# Altium schematic symbol library DPIAT_202303_DOOR.SCHLIB: 41 symbols
Pins are listed as number, name and electrical type; pins without a type are passive.

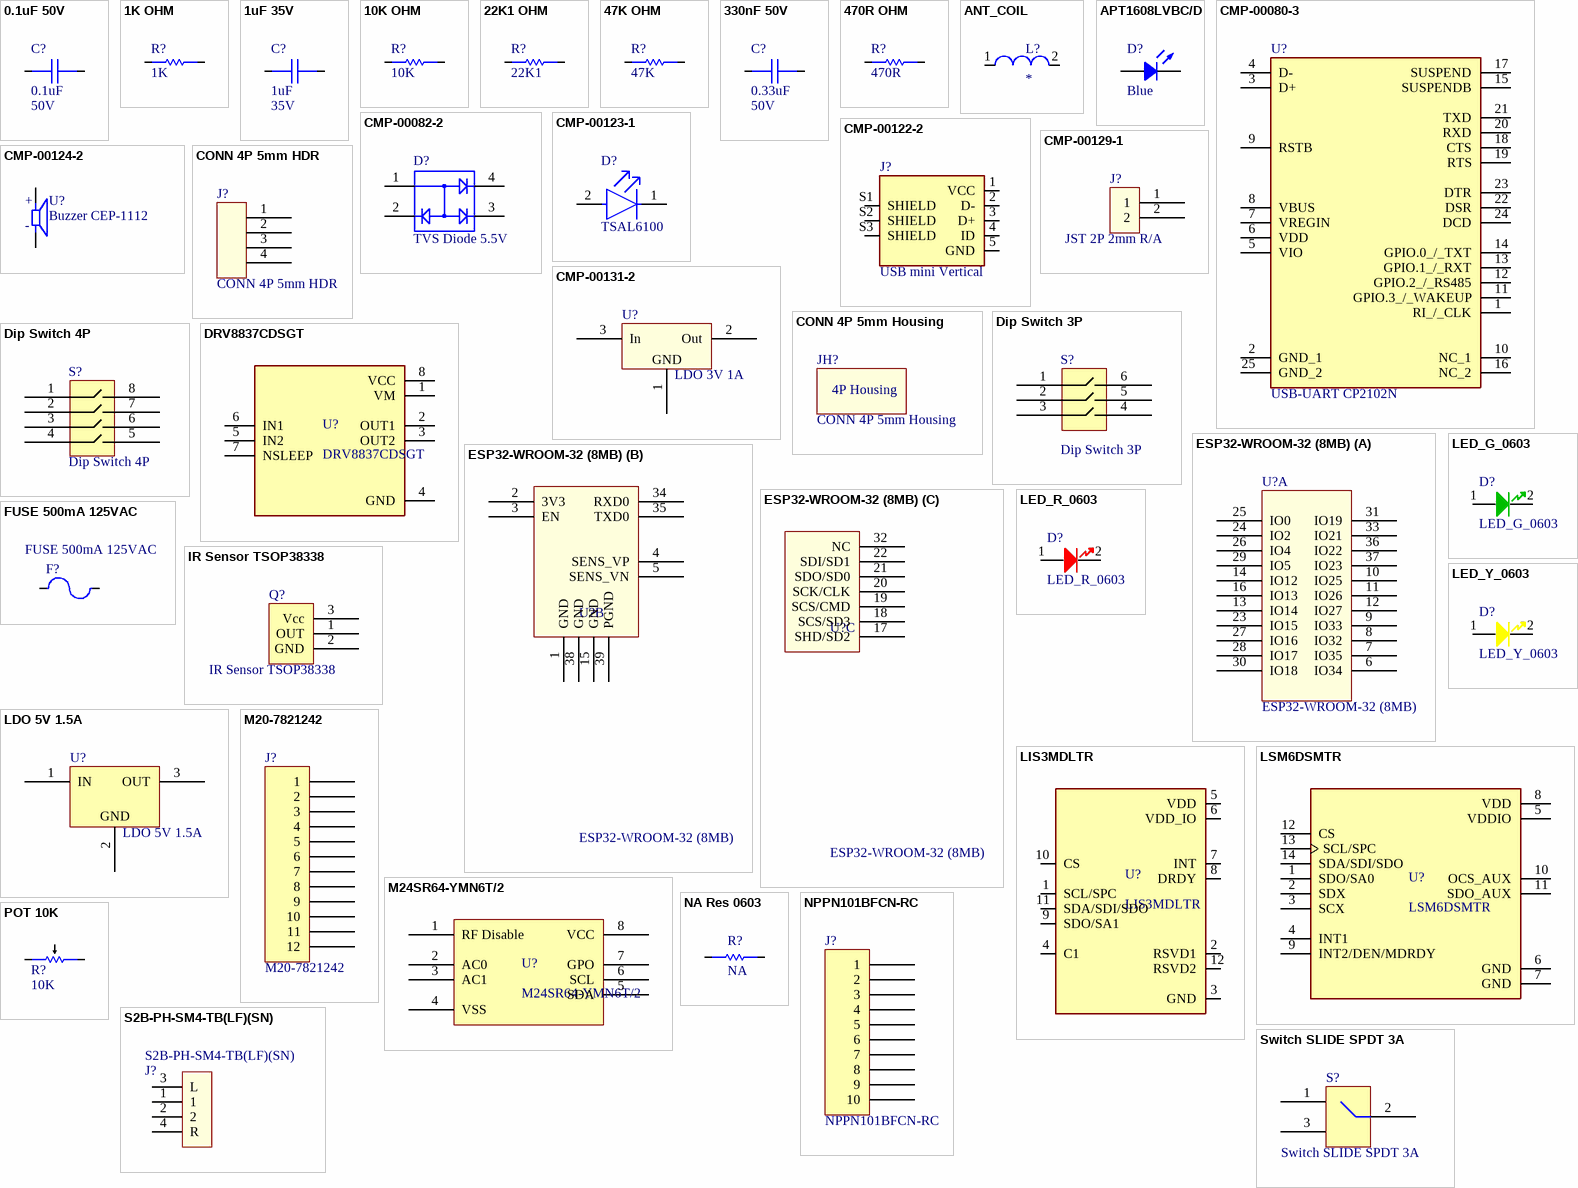
[diagram p0: symbols 0.1uF 50V to Switch SLIDE SPDT 3A]

## 0.1uF 50V
designator C?  value 0.1uF  Volt: 50V  (hidden comment: 0.1uF 50V)
CAP CER 0.1UF 50V X7R 0603; Manufacturer Part Number 1: 06035C104K4T2A; Manufacturer: Kyocera AVX; Manufacturer Part Number: 06035C104K4T2A/4K; Source: IC_Cap.SchLib; Design Item ID: 0.1uF 50V; Component Type: Capacitors
footprint 0603 X7R
pins: 1, 2

## 1K OHM
designator R?, comment value 1K  (hidden comment: 1K 1% 1/10W)
RES SMD 1K OHM 1% 1/10W 0603; Manufacturer Part Number 1: RMCF0603FT1K00; Manufacturer: Stackpole Electronics; Design Item ID: 1K 1% 1/10W; Source: IC_Res.SchLib; Manufacturer Part Number: RMCF0603FT1K00; Component Type: Resistors
footprint 0603_Yageo
pins: 1, 2

## 1uF 35V
designator C?  value 1uF  Volt: 35V  (hidden comment: 1uF 35V)
1µF ±10% 35V Ceramic Capacitor X7R 0603 (1608 Metric); Manufacturer Part Number: GMJ107CB7105MAHR; Manufacturer: Taiyo Yuden; Manufacturer Part Number: GMJ107CB7105KAHR; Verifier: Maxim Ayotte; Tri: 1000000; Design Item ID: 1uF 35V X7R; Source: IC_Cap.SchLib; Component Type: Capacitors
footprint 0603 X7R
pins: 1, 2

## 10K OHM
designator R?, comment value 10K  (hidden comment: 10K 1% 1/10W)
RES SMD 10K OHM 1% 1/10W 0603; Manufacturer Part Number 1: CRG0603F10K/10; Manufacturer: TE Connectivity; Manufacturer Part Number: CRG0603F10K; Design Item ID: 10K 1% 1/10W; Source: IC_Res.SchLib; Component Type: Resistors
footprint 0603_Yageo
pins: 1, 2

## 22K1 OHM
designator R?, comment value 22K1  (hidden comment: 22K1 1% 0603)
Res Thick Film 0603 22.1k Ohm 1% 1/10W ±100ppm/°C Molded SMD Paper T/R; Manufactuer Part Number 1: RMCF0603FT22K1; Manufacturer: Stackpole Electronics; Manufacturer Part Number: RMCF0603FT22K1; Component Type: Resistors
footprint 0603
pins: 1, 2

## 47K OHM
designator R?, comment value 47K  (hidden comment: 47K 1% 0603)
47 kOhms ±1% 0.1W, 1/10W Chip Resistor 0603 (1608 Metric) Automotive AEC-Q200 Thick Film; Manufacturer Part Number 1: RMCF0603FT47K0; Manufacturer: Stackpole Electronics; Manufacturer Part Number: RMCF0603FT47K0; Component Type: Resistors
footprint 0603
pins: 1, 2

## 330nF 50V
designator C?  value 0.33uF  Volt: 50V  (hidden comment: 330nF 50V)
CAP CER 0.33UF 50V X5R 0603; Manufacturer Part Number: CGA3E3X5R1H334K080AB; Manufacturer: TDK; Tri: 330000; Verifier: Maxim Ayotte; Source: IC_Cap.SchLib; Design Item ID: 330nF 50V; Component Type: Capacitors
footprint 0603 X7R
pins: 1, 2

## 470R OHM
designator R?, comment value 470R  (hidden comment: 470R 1% 1/10W)
RES SMD 470 OHM 1% 1/10W 0603; Manufacturer Part Number 1: RC0603FR-07470RL; Manufacturer: Yageo; Source: IC_Res.SchLib; Design Item ID: 470R 1% 1/10W (Plus en stock); Manufacturer Part Number: RC0603FR-07470RL; Component Type: Resistors
footprint 0603_Yageo
pins: 1, 2

## ANT_COIL
designator L?
pins: 1, 2

## APT1608LVBC/D
designator D?, comment Blue
Blue 470nm LED Indication - Discrete 2.65V 0603 (1608 Metric); Manufacturer Part Number 1: APT1608LVBC/D; Manufacturer: Vishay Lite-On; Manufacturer Part Number: APT1608LVBC/D; Component Type: LED; Supplier 1: Digi-Key; Supplier Part Number 1: 754-1933-1-ND
footprint LED 0603_1608 BLUE (Chip Diode, 2-Leads, Body 1.60x0.80mm, IPC Medium Density)
pins: A, C

## CMP-00080-3
designator U?, comment USB-UART CP2102N
USB Interface IC USBXpress - USB to UART Bridge QFN24; Manufacturer Part Number 1: CP2102N-A02-GQFN24; Manufacturer: Silicon Labs; Manufacturer Part Number: CP2102N-A02-GQFN24; Component Type: Interface
footprint CP2102N USB-UART
pins: 1 RI_/_CLK, 2 GND_1, 3 D+, 4 D-, 5 VIO, 6 VDD, 7 VREGIN, 8 VBUS, 9 RSTB, 10 NC_1, 11 GPIO.3_/_WAKEUP, 12 GPIO.2_/_RS485, 13 GPIO.1_/_RXT, 14 GPIO.0_/_TXT, 15 SUSPENDB, 16 NC_2, 17 SUSPEND, 18 CTS, 19 RTS, 20 RXD, 21 TXD, 22 DSR, 23 DTR, 24 DCD, 25 GND_2

## CMP-00082-2
designator D?, comment TVS Diode 5.5V
8.5V Clamp Ipp Tvs Diode Surface Mount SOT-143-4; Manufacturer Part Number 1: SP0503BAHTG; Manufacturer: Littelfuse; Manufacturer Part Number: SP0503BAHTG; Component Type: Diodes
footprint TVS 5.5V Multi Diode
pins: 1, 2, 3, 4

## CMP-00122-2
designator J?, comment USB mini Vertical
USB - mini B Receptacle Connector 5 Position Through Hole; Manufacturer Part Number 1: 1734753-1; Manufacturer: TE Connectivity AMP; Manufacturer Part Number: 1734753-1; Component Type: Connectors
footprint USB Vertical
pins: 1 VCC, 2 D-, 3 D+, 4 ID, 5 GND, S1 SHIELD, S2 SHIELD, S3 SHIELD

## CMP-00123-1
designator D?, comment TSAL6100
Infrared (IR) Emitter 940nm 1.35V 100mA 80mW/sr @ 100mA 20° Radial, 5mm Dia (T 1 3/4); Manufacturer: Vishay; Manufacturer Part Number 1: TSAL6100; Manufacturer Part Number: TSAL6100; Component Type: LED
footprint TSAL6100
pins: 1 C, 2 A

## CMP-00124-2
designator U?, comment Buzzer CEP-1112
Buzzers Transducer, Externally Driven Piezo 10 V 11mA 92dB @ 10V, 10cm Through Hole PC Pins; Manufacturer: CUI; Manufacturer Part Number 1: CEP-1112; Manufacturer Part Number: CEP-1112; Component Type: Audio
footprint Buzzer CEP-1112-Footprint-1
pins: N, P
text: +; -

## CMP-00129-1
designator J?, comment JST 2P 2mm R/A
Connector Header Through Hole, Right Angle 2 position 0.079" (2.00mm); Manufacturer Part Number 1: S2B-PH-K-S(LF)(SN); Manufacturer: JST; Manufacturer Part Number: S2B-PH-K-S(LF)(SN); Component Type: Connectors
footprint JST 2P 2mm R_A-Footprint-1
pins: 1, 2

## CMP-00131-2
designator U?, comment LDO 3V 1A
IC REG LINEAR 3V 1A SOT223-4; Manufacturer Part Number 1: TLV1117LV30DCYR; Manufacturer: Texas Instruments; Manufacturer Part Number: TLV1117LV30DCYR; Component Type: Power Supply
footprint SOT-223
pins: 1 GND, 2 Out, 3 In

## CONN 4P 5mm HDR
designator J?
4 Position Terminal Block Header, Male Pins, Shrouded (4 Side) 0.197" (5.00mm) 90°, Right Angle Solder; Manufacturer Part Number 1: OSTOQ047151; Manufacturer: On-Shore Technology; Supplier 1: Digi-Key; Supplier Part Number 1: ED2793-ND; Manufacturer Part Number: OSTOQ047151; Component Type: ToValidate
footprint CONN 4P 5mm HDR-Footprint-1
pins: 1, 2, 3, 4

## CONN 4P 5mm Housing
designator JH?  (mechanical)
4 Position Terminal Block Plug, Female Sockets 0.197" (5.00mm) Free Hanging (In-Line); Manufacturer Part Number 1: OSTTJ047150; Manufacturer: On-Shore Technology; Supplier Part Number 1: ED2781-ND; Supplier 1: Digi-Key; Manufacturer Part Number: OSTTJ047150; Component Type: Connectors
text: 4P Housing

## Dip Switch 3P
designator S?
Dip Switch SPST 3 Position Surface Mount Slide (Standard) Actuator 25mA 24VDC; Manufacturer Part Number 1: DS04-254-2-03BK-SMT; Manufacturer: CUI; Source: IC_Component.SchLib; Design Item ID: Switch SLIDE SPDT 3 pos; Manufacturer Part Number: DS04-254-2-03BK-SMT; Component Type: Switches; Supplier 1: Mouser; Supplier Part Number 1: 653-A6S-3102-H
footprint SW_DS04-254-2-03BK-SMT
pins: 1, 2, 3, 4, 5, 6

## Dip Switch 4P
designator S?
Dip Switch SPST 4 Position Surface Mount Slide (Standard) Actuator 25mA 24VDC; Manufacturer Part Number 1: DS04-254-2-04BK-SMT; Manufacturer: CUI; Source: IC_Component.SchLib; Design Item ID: Switch SLIDE SPDT 4 pos; Manufacturer Part Number: DS04-254-2-04BK-SMT; Component Type: Switches; Supplier 1: Digi-Key; Supplier Part Number 1: SW1120-ND
footprint Dip Switch SMD
pins: 1, 2, 3, 4, 5, 6, 7, 8

## DRV8837CDSGT
designator U?
Motor Driver NMOS PWM 8-WSON (2x2); Supplier 1: Digi-Key; Supplier Part Number 1: 296-44747-1-ND
footprint SON50P200X200X80-9N
pins: 1 VM, 2 OUT1, 3 OUT2, 4 GND, 5 IN2, 6 IN1, 7 NSLEEP, 8 VCC

## ESP32-WROOM-32 (8MB)
designator U?
No Description Available; Mfr_Name: Espressif Systems; Manufacturer Part Number: ESP32-WROOM-32D-N4; Copyright: Copyright (C) 2023 Ultra Librarian. All rights reserved.; Manufacturer_Part_Number: ESP32-WROOM-32 (8MB); RefDes: RefDes; Type: DEV; Supplier 1: Digi-Key; Supplier Part Number 1: 1965-ESP32-WROOM-32D-N4TR-ND
footprint IC38_ESP32-WROOM-32 (8MB)_EXP
part A pins: 6 IO34, 7 IO35, 8 IO32, 9 IO33, 10 IO25, 11 IO26, 12 IO27, 13 IO14, 14 IO12, 16 IO13, 23 IO15, 24 IO2, 25 IO0, 26 IO4, 27 IO16, 28 IO17, 29 IO5, 30 IO18, 31 IO19, 33 IO21, 36 IO22, 37 IO23
part B pins: 1 GND, 2 3V3, 3 EN, 4 SENS_VP, 5 SENS_VN, 15 GND, 34 RXD0, 35 TXD0, 38 GND, 39 PGND
part C pins: 17 SHD/SD2, 18 SCS/SD3, 19 SCS/CMD, 20 SCK/CLK, 21 SDO/SD0, 22 SDI/SD1, 32 NC

## FUSE 500mA 125VAC
designator F?
500mA 125V AC 63V DC Fuse Board Mount (Cartridge Style Excluded) Surface Mount 1206 (3216 Metric); Manufacturer Part Number 1: C1F 500; Manufacturer: Bel TRP; Manufacturer Part Number: C1F500; Source: IC_Component.SchLib; Design Item ID: FUSE 500mA 125VAC; Component Type: Fuses
footprint 1206
pins: 1, 2

## IR Sensor TSOP38338
designator Q?
Ir Remote Receiver 38KHZ 45M 3-PIN; Manufacturer: Vishay Semiconductors; Manufacturer Part Number 1: TSOP38338; Manufacturer Part Number: TSOP38338; Component Type: Optoelectronics
footprint Header 1x3 100 mils
pins: 1 OUT, 2 GND, 3 Vcc

## LDO 5V 1.5A
designator U?
IC REG LINEAR 5V 1.5A DPAK; Manufacturer Part Number: L7805CDT-TR; Manufacturer: STMicroelectronics; Source: IC_Component.SchLib; Design Item ID: LDO 5V 1.5A; Supplier: Digi-Key; Component Type: Power Supply; Supplier 1: Digi-Key; Supplier Part Number 1: 497-7255-1-ND
footprint LDO 5V 1.5A
pins: 1 IN, 2 GND, 3 OUT

## LED_G_0603
designator D?
LED SMD GREEN CLEAR 0603; Manufacturer Part Number 1: LTST-C190GKT; Manufacturer: Vishay Lite-On; Design Item ID: LED_G_0603; Source: IC_LED.SchLib; Manufacturer Part Number: LTST-C190GKT; Component Type: LED
footprint LED 0603 Green (LTST-C190EKT)
pins: 1 A, 2 K

## LED_R_0603
designator D?
LED RED DIFFUSED  0603; Manufacturer Part Number 1: LTST-C191KRKT; Manufacturer: Vishay Lite-On; Source: IC_LED.SchLib; Design Item ID: LED_R_0603; Manufacturer Part Number: LTST-C191KRKT; Component Type: LED
footprint LED 0603 RED (LTST-C190EKT)
pins: 1 A, 2 K

## LED_Y_0603
designator D?
LED YELLOW CLEAR CHIP SMD; Manufacturer Part Number 1: LTST-C190YKT; Manufacturer: Vishay Lite-On; Manufacturer Part Number: LTST-C190YKT; Component Type: LED
footprint LED_Y_0603-Footprint-1
pins: 1 A, 2 K

## LIS3MDLTR
designator U?
Magnetoresistive Sensor X, Y, Z Axis 12-LGA (2x2); Supplier 1: Digi-Key; Supplier Part Number 1: 497-13892-1-ND; Manufacturer Part Number: LIS3MDLTR
footprint XDCR_LIS3MDLTR
pins: 1 SCL/SPC, 2 RSVD1, 3 GND, 4 C1, 5 VDD, 6 VDD_IO, 7 INT, 8 DRDY, 9 SDO/SA1, 10 CS, 11 SDA/SDI/SDO, 12 RSVD2

## LSM6DSMTR
designator U?
Accelerometer, Gyroscope, Temperature, 6 Axis Sensor I²C, SPI Output; Supplier 1: Digi-Key; Supplier Part Number 1: 497-16696-1-ND; Manufacturer Part Number: LSM6DSMTR
footprint PQFN50P300X250X86-14N
pins: 1 SDO/SA0, 2 SDX, 3 SCX, 4 INT1, 5 VDDIO, 6 GND, 7 GND, 8 VDD, 9 INT2/DEN/MDRDY, 10 OCS_AUX, 11 SDO_AUX, 12 CS, 13 SCL/SPC, 14 SDA/SDI/SDO

## M20-7821242
designator J?
CONN RCPT 12POS 0.1 GOLD PCB; Manufacturer: Harwin Inc.; Connector Type: Receptacle; Current Rating (Amps): 3A; Mated Stacking Heights: 11.04mm, 12.63mm; Material Flammability Rating: UL94 V-0; Number of Positions: 12; Number of Positions Loaded: All; Style: Board to Board or Cable; Part Number: M20-7821242; ComponentLink1Description: Datasheet; ComponentLink1URL: https://cdn.harwin.com/pdfs/C001XX_M20_Series_Connectors.pdf; ComponentLink2Description: DigiKey Link; ComponentLink2URL: http://digikey.com/product-detail/en/harwin-inc/M20-7821242/952-1852-ND/3727819; Contact Finish - Mating: Gold; Contact Finish - Post: Tin; Contact Finish Thickness - Mating: Flash; Contact Type: Female Socket; Fastening Type: Push-Pull; Insulation Color: Black; LastUpdated: 2022-09-21 18:59:31; Lifecycle Status: Active; Minimum Order: 5004; Mounting Type: Through Hole; Number of Rows: 1; Operating Temperature: -40°C ~ 105°C; Packaging: Tube; Part Status: Active; Price: 0.74; Series: M20; Supplier 1: DigiKey; Supplier Part Number 1: 952-1852-ND; Termination: Solder
footprint HARWIN M20-7821245 (2.54mm DIL PC TAIL PIN HEADER ASSEMBLY)
pins: 1, 2, 3, 4, 5, 6, 7, 8, 9, 10, 11, 12

## M24SR64-YMN6T/2
designator U?
RFID Transponder IC 13.56MHz ISO 14443, NFC I²C 2.7V ~ 5.5V 8-SOIC (0.154", 3.90mm Width); Manufacturer Part Number: M24SR64-YMN6T/2; Supplier 1: Mouser; Supplier Part Number 1: 511-M24SR64-YMN6T/2
footprint SOIC127P600X175-8N
pins: 1 RF Disable, 2 AC0, 3 AC1, 4 VSS, 5 SDA, 6 SCL, 7 GPO, 8 VCC

## NA Res 0603
designator R?, comment NA
No resistance, just in case; Manufacturer Part Number: RC0603JR-070RL; Value: NA; Supplier 1: Digi-Key; Supplier Part Number 1: 311-0.0GRCT-ND
footprint RES 0603_1608 (Chip Resistor, 2-Leads, Body 1.60x0.80mm, IPC Medium Density)
pins: 1, 2

## NPPN101BFCN-RC
designator J?
CONN HDR 10POS 0.079 GOLD PCB; Manufacturer: Sullins Connector Solutions; Connector Type: Header; Contact Length - Post: 0.094" (2.40mm); Current Rating (Amps): 2A; Material Flammability Rating: UL94 V-0; Number of Positions: 10; Number of Positions Loaded: All; Pitch - Mating: 0.079" (2.00mm); Style: Board to Board; Part Number: NPPN101BFCN-RC; ComponentLink1Description: Datasheet; ComponentLink1URL: https://drawings-pdf.s3.amazonaws.com/10483.pdf; ComponentLink2Description: DigiKey Link; ComponentLink2URL: https://www.digikey.com/en/products/detail/sullins-connector-solutions/NPPN101BFCN-RC/804812; Contact Finish - Mating: Gold; Contact Finish - Post: Gold; Contact Finish Thickness - Mating: Flash; Contact Type: Female Socket; Fastening Type: Push-Pull; Insulation Color: Black; Insulation Height: 0.173" (4.40mm); LastUpdated: 2022-06-21 14:44:28; Lifecycle Status: Active; Minimum Order: 1; Mounting Type: Through Hole; Number of Rows: 1; Operating Temperature: -40°C ~ 105°C; Packaging: Tube; Part Status: Active; Price: 0.49; Series: -; Supplier 1: DigiKey; Supplier Part Number 1: S5751-10-ND; Termination: Solder
footprint SULLINS NPPN101BFCN
pins: 1, 2, 3, 4, 5, 6, 7, 8, 9, 10

## POT 10K
designator R?  value 10K  (hidden comment: POT 10K)
POT TH 10K OHM; Manufacturer Part Number: 3352H-1-103LF; Manufacturer: Bourns; Power Rating: 500mW; Resistance: 10kR; Number of Turns: 1; Tolerance: 20%; Voltage Rating: 250V; Temperature Coefficient: 100ppm/°C; Tri: 10000; ComponentLink2Description: http://www.bourns.com/data/global/pdfs/3352.pdf; Max Operating Temperature: 125°C; ComponentLink4URL: http://components.arrow.com/part/dataview/41630340S9469265N1506; Design Item ID: POT 10K; Weight: 0.01oz; Source: IC_Res.SchLib; Height: 0.15inch; ComponentLink3URL: https://www.alliedelec.com/m/d/548cca4a953cb1966bc498efd0327bf6.pdf; Lead Free: Lead Free; Radiation Hardening: No; Depth: 7.62mm; Termination: Pin; Packaging: Bulk; Min Operating Temperature: -55°C; ComponentLink3Description: https://www.alliedelec.com/m/d/548cca4a953cb1966bc498efd0327bf6.pdf; Length: 8.89mm; Contact Plating: Matte,Tin; Composition: Cermet; ComponentLink1Description: https://www.bourns.com/docs/Product-Datasheets/3352.pdf; ComponentLink1URL: https://www.bourns.com/docs/Product-Datasheets/3352.pdf; Stock 1: 402; Military Standard: Not; Color: Black; Taper: Linear; Mount: PCB,Through Hole; Diameter: 8.89mm; Package Quantity: 100; ComponentLink2URL: http://www.bourns.com/data/global/pdfs/3352.pdf; ComponentLink4Description: http://components.arrow.com/part/dataview/41630340S9469265N1506; Max Power Dissipation: 500mW; Pricing 1: 1=1.85, 10=1.624, 25=1.456, 50=1.4, 100=1.344, 250=1.288, 500=1.064, 1000=1.008, 5000=0.84 (USD); Component Type: Resistors
footprint POT_TH (Bourns 3352)
pins: 1, 2, 3

## S2B-PH-SM4-TB(LF)(SN)
designator J?
No Description Available; Mfr_Name: JST; Copyright: Copyright (C) 2023 Ultra Librarian. All rights reserved.; Manufacturer Part Number 1: S2B-PH-SM4-TB(LF)(SN); RefDes: RefDes; Type: DEV; Supplier 1: Arrow Electronics; Parameter 1: *; Supplier Part Number 1: S2B-PH-SM4-TB(LF)(SN)
footprint S2B-PH-SM4-TB_LF__SN
pins: 1, 2, 3 L, 4 R

## Switch SLIDE SPDT 3A
designator S?
SWITCH SLIDE SPDT 3A 125V; Manufacturer: NKK Switches; Manufacturer Part Number: CS12ANW03; Design Item ID: Switch SLIDE SPDT 3A; Source: IC_Component.SchLib; Supplier 1: Digi-key; Component Type: Switches
footprint CS12ANW03
pins: 1, 2, 3

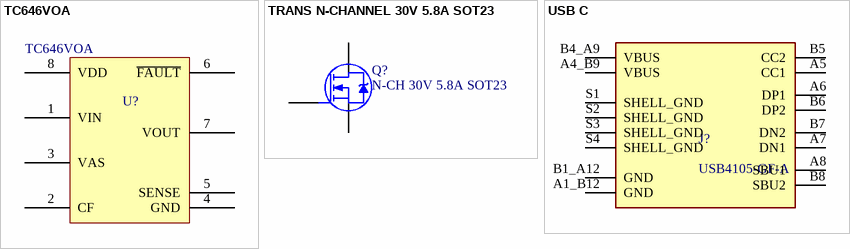
[diagram p1: symbols TC646VOA to USB C]

## TC646VOA
designator U?
IC MOTOR DRIVER 3V-5.5V 8SOIC; Manufacturer Part Number 1: TC646VOA; Supplier 1: Newark; Supplier 2: Newark; Supplier 3: Arrow Electronics; Supplier 4: Avnet; Supplier 5: Mouser; Supplier 6: Digi-Key; Supplier 7: Heisener; Supplier Part Number 4: TC646VOA; Supplier Part Number 5: 579-TC646VOA; Supplier Part Number 6: TC646VOA-ND; Supplier Part Number 7: TC646VOA; Supplier Part Number 3: TC646VOA
footprint SOIC127P600X175-8N
pins: 1 VIN, 2 CF, 3 VAS, 4 GND, 5 SENSE, 6 ~{FAULT}, 7 VOUT, 8 VDD

## TRANS N-CHANNEL 30V 5.8A SOT23
designator Q?, comment N-CH 30V 5.8A SOT23
N-Channel 5.8A (Tj) 350mW Surface Mount SOT-23; Manufacturer Part Number: SI3404-TP; Manufacturer: MCC; Source: IC_Component.SchLib; Design Item ID: TRANS N-CHANNEL 30V 5.8A SOT23; Component Type: Transistors; Supplier 1: Digi-Key; Supplier Part Number 1: DMN3051LDICT-ND
footprint N CHANNEL 30V 5.8A
pins: 1 G, 2 S, 3 D

## USB C
designator J?, comment USB4105-GF-A
USB-C (USB TYPE-C) USB 2.0 Receptacle Connector 24 (16+8 Dummy) Position Surface Mount, Right Angle; Through Hole; Manufacturer Part Number 1: USB4105-GF-A; Supplier 1: Newark; Supplier Part Number 1: 86AH2021
footprint GCT_USB4105-GF-A
pins: A1_B12 GND, A4_B9 VBUS, A5 CC1, A6 DP1, A7 DN1, A8 SBU1, B1_A12 GND, B4_A9 VBUS, B5 CC2, B6 DP2, B7 DN2, B8 SBU2, S1 SHELL_GND, S2 SHELL_GND, S3 SHELL_GND, S4 SHELL_GND